# Altium footprint library CAPC160X80X90L40N.PcbLib: 1 footprints
Each footprint in its own frame and in the unit in brackets; x right, y up, seen from the top. Pads: shape width x height; smd on the part's side, far side on the other; paste and mask are expansions set on the pad; w line width, h text height; cw(c..) or ccw(c..) is an arc to the next point about the centre after c.
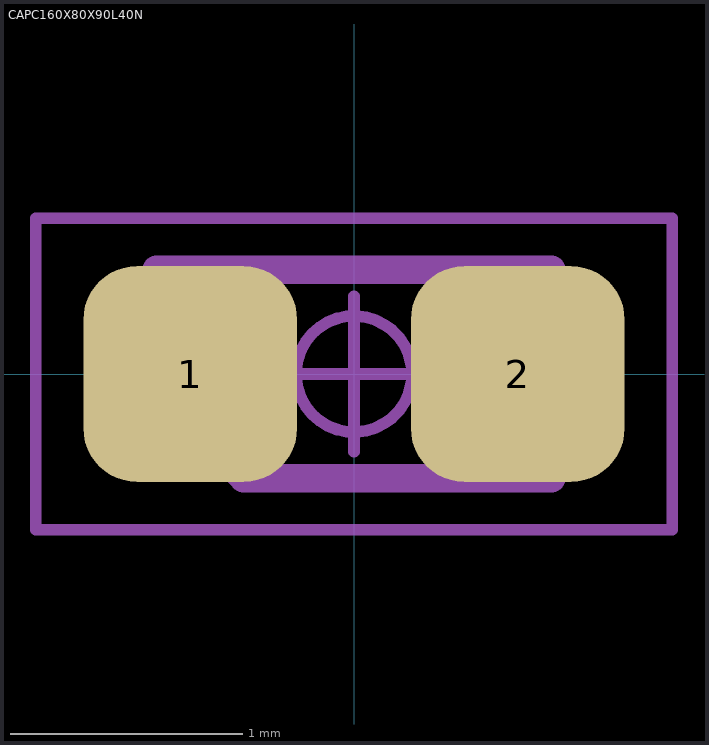
[diagram p0: the footprint, top view; thin cyan lines are the x and y axes]

## CAPC160X80X90L40N [mm] "Capacitor, Chip; 1.60 mm L X 0.80 mm W X 0.90 mm H body"
height 0.9
pads (2):
  rrect50% 0.92x0.93 smd: 1(-0.705,0) 2(0.705,0)
Mechanical 3:
  lines w0.12: -0.85,-0.075 -0.475,-0.45 0.85,-0.45 0.85,0.45 -0.85,0.45 -0.85,-0.075
Mechanical 5:
  lines w0.025: -0.8,-0.4 -0.4,-0.4 -0.4,0.4 -0.8,0.4 ; -0.8,-0.4 -0.8,0.4 ; -0.8,-0.4 -0.8,0.4 ; -0.8,-0.4 0.8,-0.4 ; -0.8,0.4 0.8,0.4 ; 0.8,-0.4 0.8,0.4 ; 0.8,-0.4 0.4,-0.4 0.4,0.4 0.8,0.4 ; 0.8,-0.4 0.8,0.4
Mechanical 7:
  circle w0.05: c0,0 r0.25
  lines w0.05: -0.335,0 0.335,0 ; 0,-0.335 0,0.335 ; -1.37,-0.67 -1.37,0.67 1.37,0.67 1.37,-0.67 -1.37,-0.67
Mechanical 9:
  text "'.Designator'" at -5.605,-0.254 h1
3D body "CAPC160X80X90L40.STEP": height 0.9, standoff 0, extent -0.8,-0.4 0.8,0.4
3D body: height 1.04, standoff 0, extent -1.37,-0.67 1.37,0.67